# EAGLE library part 74HC541 (library Semiconductors > Integrated Circuits - ICs > Logic ICs > Logic Gates)
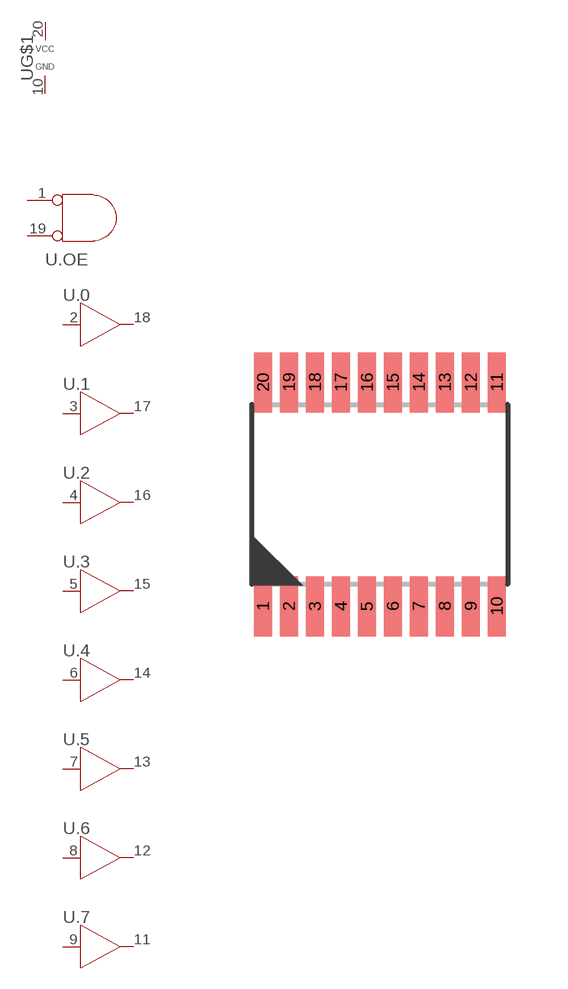
[diagram p3: symbol with the pads of TSSOP20; footprint TSSOP20]

Designator prefix U; gates .0=BUF .1=BUF .2=BUF .3=BUF .4=BUF .5=BUF .6=BUF .7=BUF .OE=!OE G$1=PWR

## 74HC541  [TSSOP20]
1  .OE:A  in
2  .0:A  in
3  .1:A  in
4  .2:A  in
5  .3:A  in
6  .4:A  in
7  .5:A  in
8  .6:A  in
9  .7:A  in
10  G$1:GND
11  .7:Y  out
12  .6:Y  out
13  .5:Y  out
14  .4:Y  out
15  .3:Y  out
16  .2:Y  out
17  .1:Y  out
18  .0:Y  out
19  .OE:B  in
20  G$1:VCC

## Footprint TSSOP20 (pad centres in mm)
smd 0.45 x 1.5: 1 -2.91,-2.8; 2 -2.26,-2.8; 3 -1.61,-2.8; 4 -0.96,-2.8; 5 -0.31,-2.8; 6 0.34,-2.8; 7 0.99,-2.8; 8 1.64,-2.8; 9 2.29,-2.8; 10 2.94,-2.8; 11 2.94,2.8; 12 2.29,2.8; 13 1.64,2.8; 14 0.99,2.8; 15 0.34,2.8; 16 -0.31,2.796; 17 -0.96,2.796; 18 -1.61,2.8; 19 -2.26,2.8; 20 -2.91,2.8